# Altium footprint library PCB - CONNECTOR - WURTH - WURTH SMP 60114602122404.PcbLib: 1 footprints
Each footprint in its own frame and in the unit in brackets; x right, y up, seen from the top. Pads: shape width x height; smd on the part's side, far side on the other; paste and mask are expansions set on the pad; w line width, h text height; cw(c..) or ccw(c..) is an arc to the next point about the centre after c.
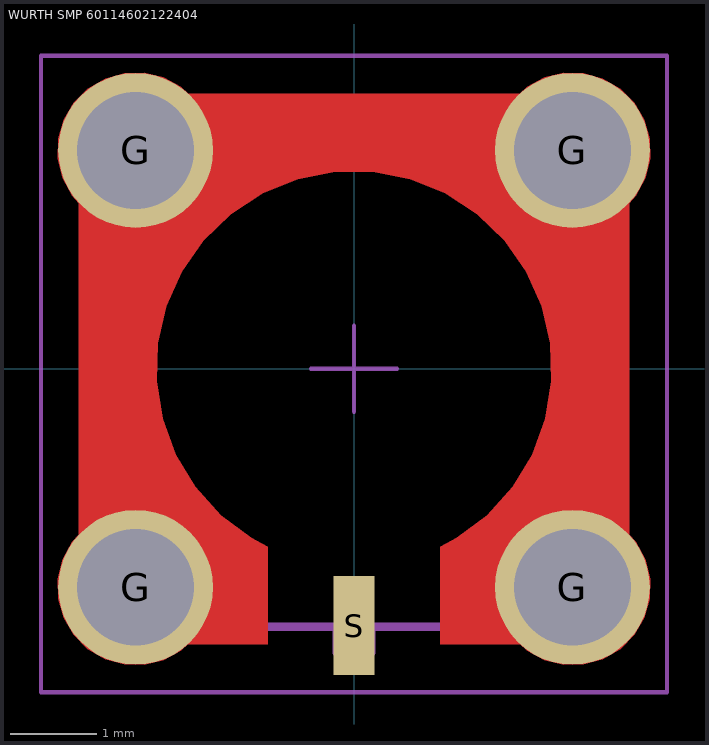
[diagram p0: the footprint, top view; thin cyan lines are the x and y axes]

## WURTH SMP 60114602122404 [mm] "SMP SMT PLUG"
height 4.1
pads (5):
  round 1.8 hole 1.36: G(-2.54,-2.54) G(-2.54,2.54) G(2.54,-2.54) G(2.54,2.54)
  rect 0.48x1.15 smd: S(0,-2.985)
Top Layer:
  region: -3.2,-1.928 -3.278,-2.013 -3.388,-2.217 -3.442,-2.441 -3.438,-2.673 -3.375,-2.895 -3.258,-3.095 -3.095,-3.258 -2.895,-3.375 -2.672,-3.438 -2.441,-3.442 -2.216,-3.388 -2.013,-3.278 -1.928,-3.2 -1,-3.2 -1,-2.071 -1.194,-1.966 -1.548,-1.701 -1.844,-1.374 -2.073,-0.996 -2.225,-0.582 -2.295,-0.146 -2.281,0.295 -2.182,0.726 -2.004,1.129 -1.751,1.491 -1.434,1.799 -1.063,2.039 -0.654,2.205 -0.221,2.289 0.221,2.289 0.654,2.205 1.063,2.039 1.434,1.799 1.751,1.491 2.004,1.129 2.182,0.726 2.281,0.295 2.295,-0.146 2.225,-0.582 2.073,-0.996 1.844,-1.374 1.548,-1.701 1.194,-1.966 1,-2.071 1,-3.2 1.928,-3.2 2.013,-3.278 2.216,-3.388 2.441,-3.442 2.672,-3.438 2.895,-3.375 3.095,-3.258 3.258,-3.095 3.375,-2.895 3.438,-2.673 3.442,-2.441 3.388,-2.217 3.278,-2.013 3.2,-1.928 3.2,1.928 3.278,2.013 3.388,2.217 3.442,2.441 3.438,2.673 3.375,2.895 3.258,3.095 3.095,3.258 2.895,3.375 2.672,3.438 2.441,3.442 2.216,3.388 2.013,3.278 1.928,3.2 -1.928,3.2 -2.013,3.278 -2.216,3.388 -2.441,3.442 -2.672,3.438 -2.895,3.375 -3.095,3.258 -3.258,3.095 -3.375,2.895 -3.438,2.673 -3.442,2.441 -3.388,2.217 -3.278,2.013 -3.2,1.928
Top Component Center:
  lines w0.05: -0.5,0 0.5,0 ; 0,-0.5 0,0.5
Top Component Outline:
  lines w0.1: -3,-3 3,-3 ; -3,-3 -3,3 ; -3,-3 -3,3 ; -3,-3 3,-3 ; -3,3 3,3 ; -3,3 3,3 ; -0.2,-3.3 0.2,-3.3 ; -0.2,-3.3 -0.2,-3 -0.2,-3.3 ; -0.2,-3.3 0.2,-3.3 ; 0.2,-3.3 0.2,-3 0.2,-3.3 ; 3,-3 3,3 ; 3,-3 3,3
Top Courtyard:
  lines w0.05: -3.639,-3.76 -3.639,3.639 3.639,3.639 3.639,-3.76 -3.639,-3.76
3D body "Wurth 60114602122404.step": height 4.1, standoff -2.5, extent -3,-3.3 3,3